# Altium footprint library LiPoKiller.PcbLib: 20 footprints (part 2 of 2)
Each footprint in its own frame and in the unit in brackets; x right, y up, seen from the top. Pads: shape width x height; smd on the part's side, far side on the other; paste and mask are expansions set on the pad; w line width, h text height; cw(c..) or ccw(c..) is an arc to the next point about the centre after c.
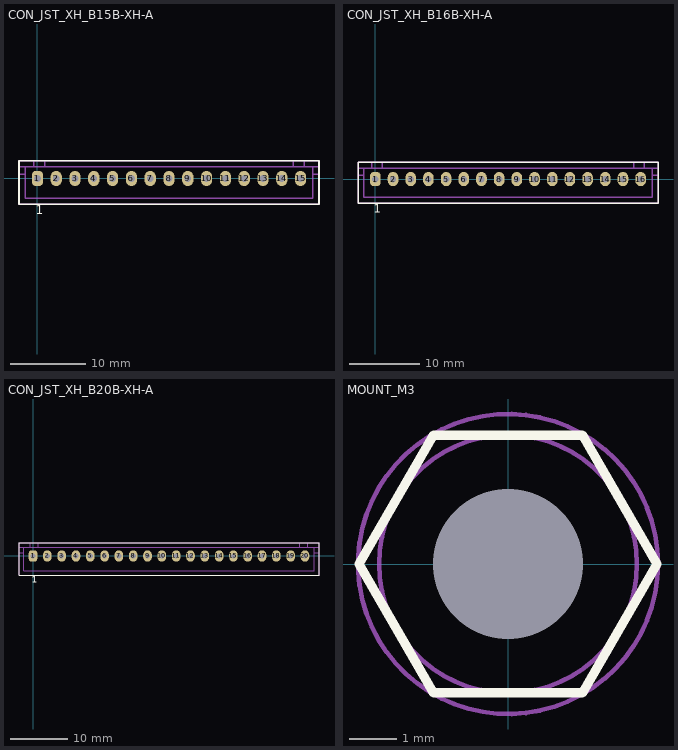
[diagram p1: the footprints below, top view; thin cyan lines are the x and y axes]

## CON_JST_XH_B15B-XH-A [mm] "JST XH 15 Pin"
pads (15):
  rrect70% 1.5x2 hole 0.9: 1(0,0)
  rrect100% 1.5x2 hole 0.9: 2(2.5,0) 3(5,0) 4(7.5,0) 5(10,0) 6(12.5,0) 7(15,0) 8(17.5,0) 9(20,0) 10(22.5,0) 11(25,0) 12(27.5,0) 13(30,0) 14(32.5,0) 15(35,0)
Top Overlay:
  lines w0.2: -2.45,-3.4 -2.45,2.35 37.45,2.35 37.45,-3.4 -2.45,-3.4
  text "1" at -0.236,-5.151 h2
Bottom Overlay:
  text "1" at 0.236,-2.644 h2
Top Assembly:
  lines w0.2: -2.45,0.55 -1.65,0.55 ; -2.45,1.55 37.45,1.55 ; -1.65,1.55 -1.65,-2.6 36.65,-2.6 36.65,1.55 ; -0.5,1.55 -0.5,2.35 ; 0.95,1.55 0.95,2.35 ; 34.05,1.55 34.05,2.35 ; 35.5,1.55 35.5,2.35 ; 36.65,0.55 37.45,0.55 ; -2.45,-3.4 -2.45,2.35 37.45,2.35 37.45,-3.4 -2.45,-3.4
3D body "B15B-XH-A.STEP": height 7.01, standoff -3.39, extent -2.45,-3.375 37.45,2.375

## CON_JST_XH_B16B-XH-A [mm] "JST XH 16 Pin"
pads (16):
  rrect70% 1.5x2 hole 0.9: 1(0,0)
  rrect100% 1.5x2 hole 0.9: 2(2.5,0) 3(5,0) 4(7.5,0) 5(10,0) 6(12.5,0) 7(15,0) 8(17.5,0) 9(20,0) 10(22.5,0) 11(25,0) 12(27.5,0) 13(30,0) 14(32.5,0) 15(35,0) 16(37.5,0)
Top Overlay:
  lines w0.2: -2.45,-3.4 -2.45,2.35 39.95,2.35 39.95,-3.4 -2.45,-3.4
  text "1" at -0.236,-5.151 h2
Bottom Overlay:
  text "1" at 0.236,-2.644 h2
Top Assembly:
  lines w0.2: -2.45,0.55 -1.65,0.55 ; -2.45,1.55 39.95,1.55 ; -1.65,1.55 -1.65,-2.6 39.15,-2.6 39.15,1.55 ; -0.5,1.55 -0.5,2.35 ; 0.95,1.55 0.95,2.35 ; 36.55,1.55 36.55,2.35 ; 38,1.55 38,2.35 ; 39.15,0.55 39.95,0.55 ; -2.45,-3.4 -2.45,2.35 39.95,2.35 39.95,-3.4 -2.45,-3.4
3D body "B16B-XH-A.STEP": height 7, standoff -3.4, extent -2.45,-3.4 39.95,2.35

## CON_JST_XH_B20B-XH-A [mm] "JST XH 20 Pin"
pads (20):
  rrect70% 1.5x2 hole 0.9: 1(0,0)
  rrect100% 1.5x2 hole 0.9: 2(2.5,0) 3(5,0) 4(7.5,0) 5(10,0) 6(12.5,0) 7(15,0) 8(17.5,0) 9(20,0) 10(22.5,0) 11(25,0) 12(27.5,0) 13(30,0) 14(32.5,0) 15(35,0) 16(37.5,0) 17(40,0) 18(42.5,0) 19(45,0) 20(47.5,0)
Top Overlay:
  lines w0.2: -2.45,-3.4 -2.45,2.35 49.95,2.35 49.95,-3.4 -2.45,-3.4
  text "1" at -0.236,-5.151 h2
Bottom Overlay:
  text "1" at 0.236,-2.644 h2
Top Assembly:
  lines w0.2: -2.45,0.55 -1.65,0.55 ; -2.45,1.55 49.95,1.55 ; -1.65,1.55 -1.65,-2.6 49.15,-2.6 49.15,1.55 ; -0.5,1.55 -0.5,2.35 ; 0.95,1.55 0.95,2.35 ; 46.55,1.55 46.55,2.35 ; 48,1.55 48,2.35 ; 49.15,0.55 49.95,0.55 ; -2.45,-3.4 -2.45,2.35 49.95,2.35 49.95,-3.4 -2.45,-3.4
3D body "B20B-XH-A.STEP": height 7, standoff -3.4, extent -2.45,-3.4 49.95,2.35

## MOUNT_M3 [mm] "Mounting hole M3"
pads (1):
  round 0 hole 3.2: 1(0,0)
Top Overlay:
  lines w0.2: -3.175,0 -1.588,-2.75 1.588,-2.75 3.175,0 1.588,2.75 -1.588,2.75 -3.175,0
Bottom Overlay:
  lines w0.2: -3.175,0 -1.588,-2.75 1.588,-2.75 3.175,0 1.588,2.75 -1.588,2.75 -3.175,0
Top Assembly:
  circle w0.1: c0,0 r2.75
  circle w0.1: c0,0 r3.2
Bottom Assembly:
  circle w0.1: c0,0 r2.75
  circle w0.1: c0,0 r3.2
3D body: height 5, standoff 0, extent -3.175,-2.75 3.175,2.75